# EAGLE library part DINC_MIN_TM_6_1 (library zxuno_rev_mcleod)
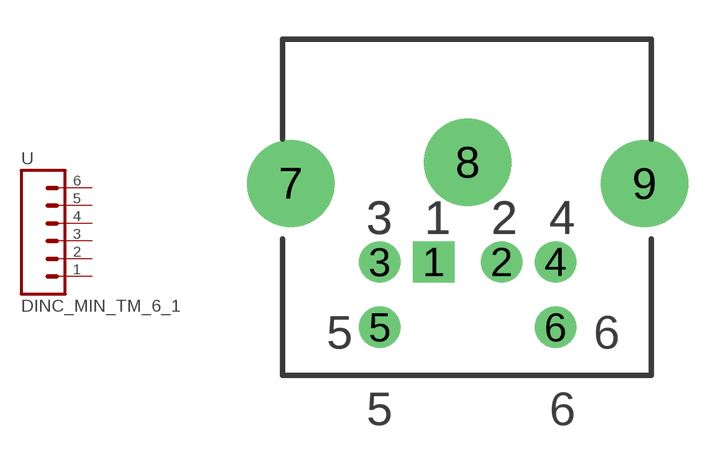
[diagram p3: symbol with the pads of DINC/MIN_TM/6_1PRIMARY; footprint DINC/MIN_TM/6_1PRIMARY]

Designator prefix -

## DINC_MIN_TM_6_1  [DINC/MIN_TM/6_1PRIMARY]
1  1  pas
2  2  pas
3  3  pas
4  4  pas
5  5  pas
6  6  pas

## Footprint DINC/MIN_TM/6_1PRIMARY (pad centres in mm)
Original name DINC/MIN_TM/6
drill 0.889 pad 1.575 square: 1 -1.295,-8.509
drill 0.889 pad 1.575: 2 1.295,-8.509; 3 -3.353,-8.509; 4 3.353,-8.509; 5 -3.353,-10.998; 6 3.353,-10.998
drill 2.311 pad 2.845: 7 -6.756,-5.512; 8 0,-4.699; 9 6.756,-5.512